# Altium integrated library ADS1118.IntLib: 2 symbols
Pins are listed as number, name and electrical type; pins without a type are passive.

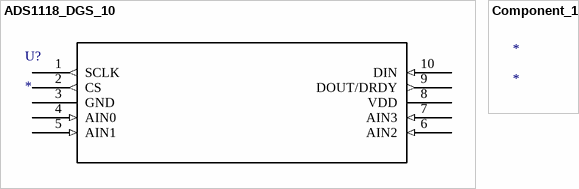
[diagram p0: symbols ADS1118_DGS_10 to Component_1]

## ADS1118_DGS_10
designator U?
Imported; Manufacturer: Texas Instruments; GENERIC_PART_NUMBER: ADS1118; INDUSTRY_STD_PKG_TYPE: MSOP; FAMILY_NAME: PRECISION ADC (<=10MSPS); PIN_COUNT: 10; PACKAGE_DESIGNATOR: DGS; Datasheet URL: http://www.ti.com/lit/gpn/ADS1118; RefDes: RefDes; Type: DEV; Value: Value
footprint DGS10
pins: 1 SCLK (out), 2 CS (out), 3 GND (power), 4 AIN0 (in), 5 AIN1 (in), 6 AIN2 (in), 7 AIN3 (in), 8 VDD (power), 9 DOUT/DRDY (out), 10 DIN (in)

## Component_1
designator *